# EAGLE library part A8732EEETR-T (library Allegro_By_element14_Batch_1)
Ultra Small Mobile Phone Xenon Photoflash Capacitor Charger with IGBT Driver
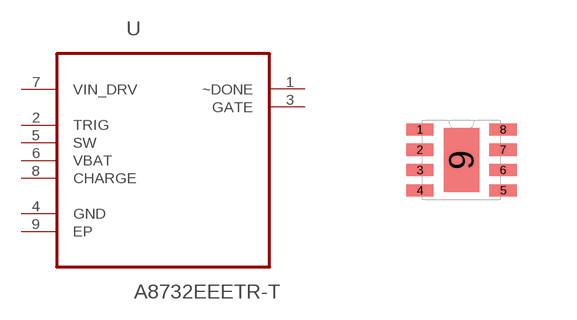
[diagram p27: symbol with the pads of DFN200X200X60-9N; footprint DFN200X200X60-9N]

Designator prefix U

## A8732EEETR-T (MPN: A8732EEETR-T; OC_FARNELL: -; OC_NEWARK: 67R9679; PACKAGE: DFN-8; SUPPLIER: Allegro)  [DFN200X200X60-9N]
1  ~DONE  out
2  TRIG  in
3  GATE  out
4  GND  pas
5  SW  pas
6  VBAT  pwr
7  VIN_DRV  pwr
8  CHARGE  in
9  EP  pas

## Footprint DFN200X200X60-9N (pad centres in mm)
smd 0.686 x 0.305: 1 -1.041,0.762; 2 -1.041,0.254; 3 -1.041,-0.254; 4 -1.041,-0.762; 5 1.041,-0.762; 6 1.041,-0.254; 7 1.041,0.254; 8 1.041,0.762
smd 0.889 x 1.6: 9 0,0